# Altium schematic symbol library STM6822.Schlib: 1 symbol
Pins are listed as number, name and electrical type; pins without a type are passive.

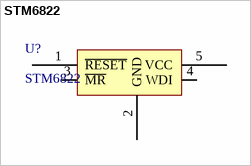
[diagram p0: symbol STM6822]

## STM6822
designator U?
IC SUPERVISOR PB RESET SOT23-5
pins: 1 ~{RESET}, 2 GND, 3 ~{MR}, 4 WDI, 5 VCC